# Altium schematic symbol library FUSE-2.Schlib: 1 symbol
Pins are listed as number, name and electrical type; pins without a type are passive.

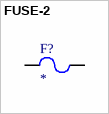
[diagram p0: symbol FUSE-2]

## FUSE-2
designator F?
pins: 1, 2